# EAGLE library part SCA3300-D01-1 (library SCA3300-D01-1)
Murata SCA3300-D01-1, 3-Axis Accelerometer, +/-1.5 +/-6g, 3 3.6 V, SPI, DFL/SMD 12-Pin Source: Datasheet <https://www.murata.com/~/media/webrenewal/products/sensor/accel/sca3300/sca3300-d01 industrial 3-axis accelerometer datasheet _a1.ashx> Check availability <https://pricing.snapeda.com/parts/SCA3300-D01-1/Murata%20Electronics/view-part?ref=eda>
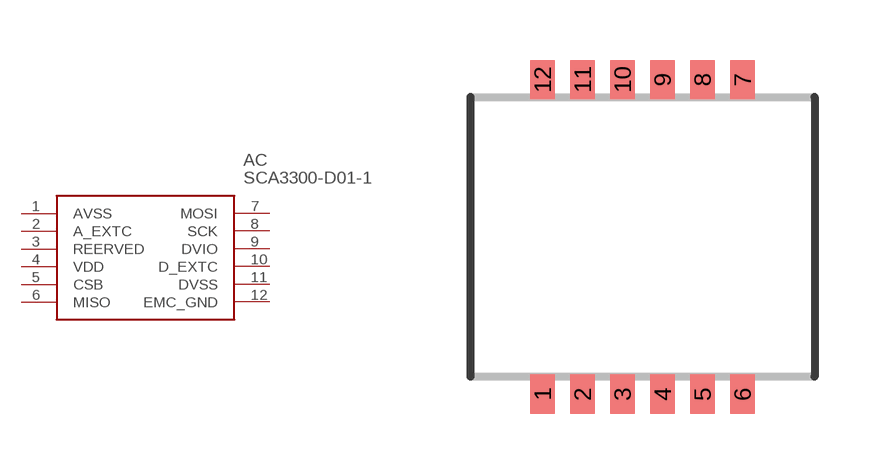
[diagram p0: symbol with the pads of SCA3300; footprint SCA3300]

Designator prefix AC

## SCA3300-D01-1 (Availability: In Stock; Description: Accelerometer X, Y, Z Axis ±1.5g, 3g, 6g - -; MF: Murata Electronics; MP: SCA3300-D01-1; Package: Nonstandard Murata; Price: None; Purchase-URL: https://pricing.snapeda.com/search/part/SCA3300-D01-1/?ref=eda)  [SCA3300]
1  AVSS
2  A_EXTC
3  REERVED
4  VDD
5  CSB
6  MISO
7  MOSI
8  SCK
9  DVIO
10  D_EXTC
11  DVSS
12  EMC_GND

## Footprint SCA3300 (pad centres in mm)
SCA3300
smd 0.61 x 0.98: 1 -2.5,-3.935; 2 -1.5,-3.935; 3 -0.5,-3.935; 4 0.5,-3.935; 5 1.5,-3.935; 6 2.5,-3.935; 7 2.5,3.935; 8 1.5,3.935; 9 0.5,3.935; 10 -0.5,3.935; 11 -1.5,3.935; 12 -2.5,3.935